# EAGLE library part 8266MINI (library chinese-modules)
ESP8266 WeMos D1 Mini
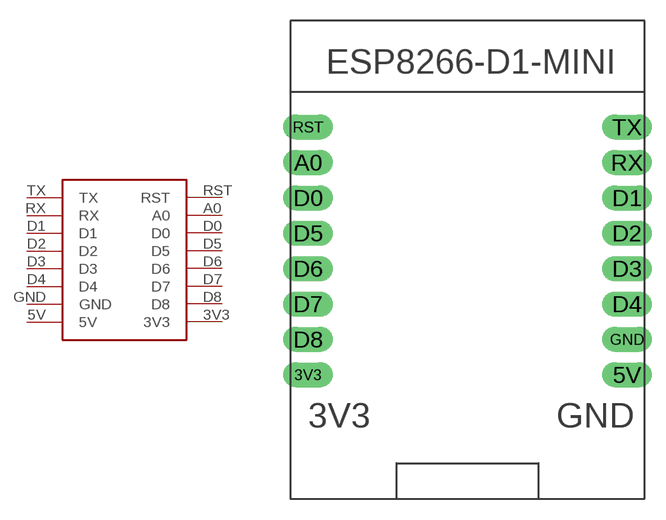
[diagram p1: symbol with the pads of 8266MINI; footprint 8266MINI]

Designator prefix -

## 8266MINI  [8266MINI]
3V3  3V3
5V  5V
A0  A0
D0  D0
D1  D1
D2  D2
D3  D3
D4  D4
D5  D5
D6  D6
D7  D7
D8  D8
GND  GND
RST  RST
RX  RX
TX  TX

## Footprint 8266MINI (pad centres in mm)
ESP8266 WeMos D1 Mini Footprint
drill 0.8 pad 1.778 long: 3V3 1.27,8.89; 5V 24.13,8.89; A0 1.27,24.13; D0 1.27,21.59; D1 24.13,21.59; D2 24.13,19.05; D3 24.13,16.51; D4 24.13,13.97; D5 1.27,19.05; D6 1.27,16.51; D7 1.27,13.97; D8 1.27,11.43; GND 24.13,11.43; RST 1.27,26.67; RX 24.13,24.13; TX 24.13,26.67